# Altium footprint library Picoblade 6 pin Vertical.PcbLib: 1 footprints
Each footprint in its own frame and in the unit in brackets; x right, y up, seen from the top. Pads: shape width x height; smd on the part's side, far side on the other; paste and mask are expansions set on the pad; w line width, h text height; cw(c..) or ccw(c..) is an arc to the next point about the centre after c.
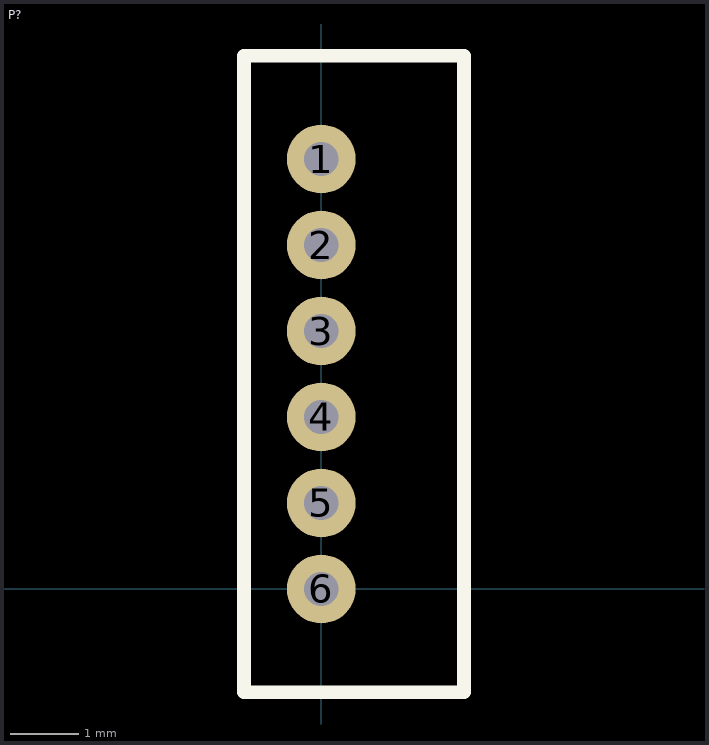
[diagram p0: the footprint, top view; thin cyan lines are the x and y axes]

## P? [mm] "PicoBlade 6 way Vertical"
pads (6):
  round 1 hole 0.5: 1(0,6.25) 2(0,5) 3(0,3.75) 4(0,2.5) 5(0,1.25) 6(0,0)
Top Overlay:
  lines w0.2: -1.125,-1.5 2.075,-1.5 2.075,7.75 -1.125,7.75 -1.125,-1.5
3D body "530470610.stp": height 4.18, standoff -2.32, extent -1.125,-1.5 2.075,7.75